# Altium footprint library MIT_Pcblib.PcbLib: 5 footprints
Each footprint in its own frame and in the unit in brackets; x right, y up, seen from the top. Pads: shape width x height; smd on the part's side, far side on the other; paste and mask are expansions set on the pad; w line width, h text height; cw(c..) or ccw(c..) is an arc to the next point about the centre after c.
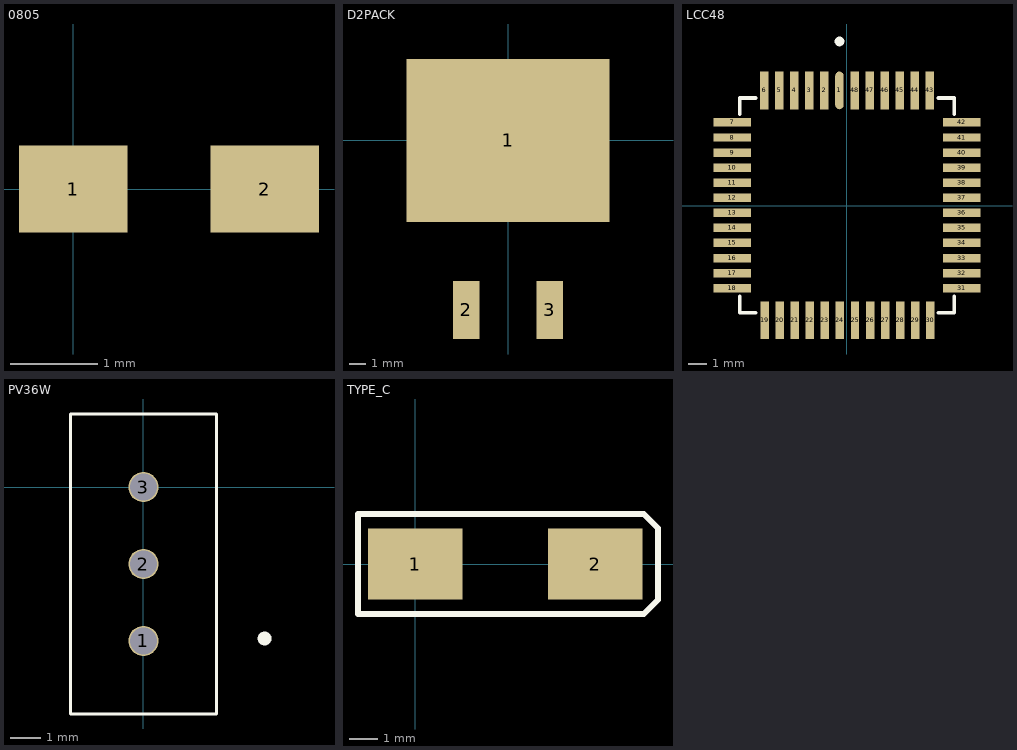
[diagram p0: the footprints below, top view; thin cyan lines are the x and y axes]

## 0805 [mm]
pads (2):
  rect 1.25x1 smd: 1(0,0) 2(2.2,0)

## D2PACK [mm]
pads (3):
  rect 12.2x9.8 smd: 1(0,0)
  rect 1.6x3.5 smd: 2(-2.5,-10.2) 3(2.5,-10.2)

## LCC48 [mm]
pads (48):
  oval 0.45x2 smd: 1(-0.381,6.111)
  rect 0.45x2 smd: 2(-1.181,6.111) 3(-1.981,6.111) 4(-2.781,6.111) 5(-3.581,6.111) 6(-4.381,6.111) 19(-4.356,-6.089) 20(-3.556,-6.089) 21(-2.756,-6.089) 22(-1.956,-6.089) 23(-1.156,-6.089) 24(-0.356,-6.089) 25(0.444,-6.089) 26(1.244,-6.089) 27(2.044,-6.089) 28(2.844,-6.089) 29(3.644,-6.089) 30(4.444,-6.089) 43(4.419,6.111) 44(3.619,6.111) 45(2.819,6.111) 46(2.019,6.111) 47(1.219,6.111) 48(0.419,6.111)
  rect 2x0.45 smd: 7(-6.081,4.411) 8(-6.081,3.611) 9(-6.081,2.811) 10(-6.081,2.011) 11(-6.081,1.211) 12(-6.081,0.411) 13(-6.081,-0.389) 14(-6.081,-1.189) 15(-6.081,-1.989) 16(-6.081,-2.789) 17(-6.081,-3.589) 18(-6.081,-4.389) 31(6.119,-4.389) 32(6.119,-3.589) 33(6.119,-2.789) 34(6.119,-1.989) 35(6.119,-1.189) 36(6.119,-0.389) 37(6.119,0.411) 38(6.119,1.211) 39(6.119,2.011) 40(6.119,2.811) 41(6.119,3.611) 42(6.119,4.411)
Top Overlay:
  circle w0.254: c-0.381,8.712 r0.13
  lines w0.2: -5.681,-4.839 -5.681,-5.689 -4.831,-5.689 ; -5.681,4.861 -5.681,5.711 -4.831,5.711 ; 4.869,-5.689 5.719,-5.689 5.719,-4.839 ; 4.869,5.711 5.719,5.711 5.719,4.861

## PV36W [mm]
pads (3):
  round 1 hole 0.9: 1(0,-5.08) 2(0,-2.54) 3(0,0)
Top Overlay:
  circle w0.254: c4,-5 r0.1
  lines w0.1: -2.413,-7.493 2.413,-7.493 2.413,2.413 -2.413,2.413 -2.413,-7.493

## TYPE_C [mm]
pads (2):
  rect 3.3x2.5 smd: 1(0,0) 2(6.3,0)
Top Overlay:
  lines w0.2: 8.25,-1.5 8.5,-1.25 8.5,1.25 8.25,1.5 ; 8.383,-1.367 8,-1.75 -2,-1.75 -2,1.75 8,1.75 8.383,1.367